# EAGLE library part LM22676MR-5.0/NOPB (library C3-Ti)
LM22676/LM22676-Q1 42V, 3A SIMPLE SWITCHER® Step-Down Voltage Regulator with Features Datasheet <http://www.ti.com/lit/ds/symlink/lm22676.pdf> Octopart Entry <http://octopart.com/lm22676mr-5.0%2Fnopb-texas+instruments-24812627>
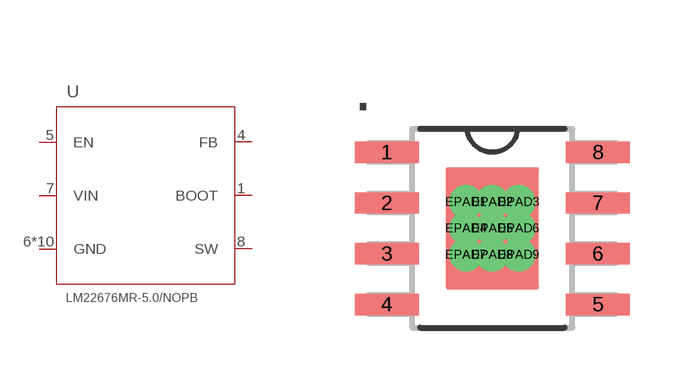
[diagram p8: symbol with the pads of MRA08B; footprint MRA08B]

Designator prefix U

## LM22676MR-5.0/NOPB (DATASHEETURL: http://www.ti.com/product/lm22676; FREQUENCY: 500000.0; IMAX: 3.0; MANUFACTURER_NAME: Texas Instruments; MANUFACTURER_PART_NUMBER: LM22676MR-5.0; MKTG_PACKAGE: NA; NSID: LM22676MRE-5.0/NOPB; PACKAGE: NA; VENDOR: Texas Instruments)  [MRA08B]
1  BOOT  pas
4  FB  pas
5  EN  pas
6  GND  pas
7  VIN  pas
8  SW  pas
EPAD1  GND  pas
EPAD2  GND  pas
EPAD3  GND  pas
EPAD4  GND  pas
EPAD5  GND  pas
EPAD6  GND  pas
EPAD7  GND  pas
EPAD8  GND  pas
EPAD9  GND  pas

## Footprint MRA08B (pad centres in mm)
SO-8 PowerPAD
smd 1.6 x 0.533: 1 -2.642,1.905; 2 -2.642,0.635; 3 -2.642,-0.635; 4 -2.642,-1.905; 5 2.642,-1.905; 6 2.642,-0.635; 7 2.642,0.635; 8 2.642,1.905
drill 0.33 pad 0.508: EPAD1 -0.66,0.66; EPAD2 0,0.66; EPAD3 0.66,0.66; EPAD4 -0.66,0; EPAD5 0,0; EPAD6 0.66,0; EPAD7 -0.66,-0.66; EPAD8 0,-0.66; EPAD9 0.66,-0.66